# Altium schematic symbol library BD33HC5WEFJ-E2.SchLib: 2 symbols
Pins are listed as number, name and electrical type; pins without a type are passive.

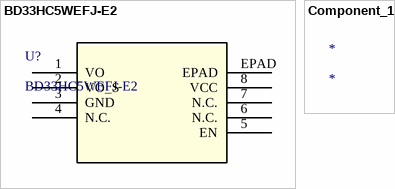
[diagram p0: symbols BD33HC5WEFJ-E2 to Component_1]

## BD33HC5WEFJ-E2
designator U?
No Description Available; Mfr_Name: ROHM Semiconductor; Copyright: Copyright (C) 2022 Ultra Librarian. All rights reserved.; Manufacturer_Part_Number: BD33HC5WEFJ-E2; RefDes: RefDes; Type: DEV
footprint HTSOP-J8_ROM
pins: 1 VO, 2 VO_S, 3 GND, 4 N.C., 5 EN, 6 N.C., 7 N.C., 8 VCC (power), EPAD

## Component_1
designator *